# EAGLE library part AD8675 (library opamps)
AD8675: Rail-to-rail output opamp (Analog Devices) ±15V, ±20mA, 4.5nA bias 240µV offset, 10MHz UGF, 2.8nV/rt(Hz) noise
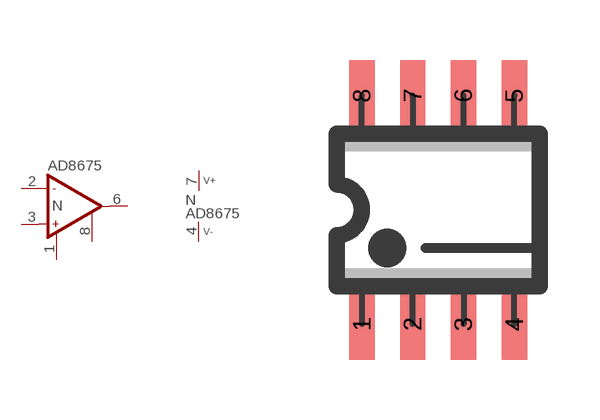
[diagram p271: symbol with the pads of SO08; footprint SO08]

Designator prefix N; gates A=OP_C P=V+-

## AD8675  [SO08]
1  A:OPC1
2  A:IN-  in
3  A:IN+  in
4  P:V-  pwr
6  A:OUT  out
7  P:V+  pwr
8  A:OPC2

## AD8675S  [SO08]
Pads as for SO08

## Footprint SO08 (pad centres in mm)
SO-8, SMD SOIC IC package, 8 pins
smd 0.635 x 1.778: 1 -1.905,-2.857; 2 -0.635,-2.857; 3 0.635,-2.857; 4 1.905,-2.857; 5 1.905,2.857; 6 0.635,2.857; 7 -0.635,2.857; 8 -1.905,2.857